# EAGLE library part KSZ8081RNACA (library 3D_MIG_Controller)
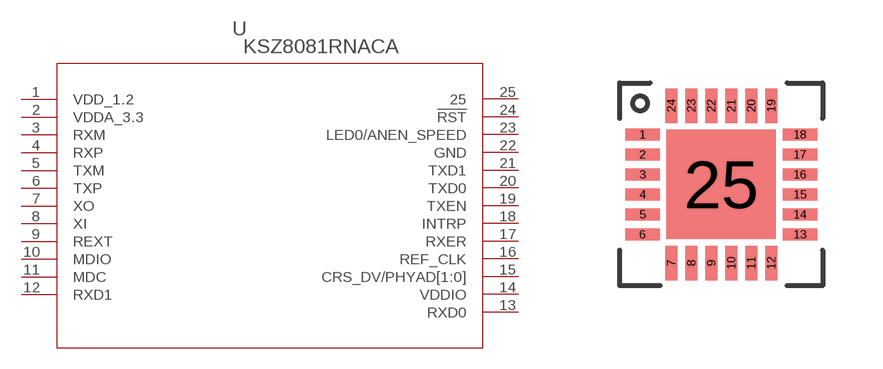
[diagram p25: symbol with the pads of QFN-24-M; footprint QFN-24-M]

Designator prefix U

## KSZ8081RNACAQFN-24-M (PARTNO: KSZ8081RNACA; VALUE: KSZ8081_QFN_24; VENDOR: Micrel)  [QFN-24-M]
1  VDD_1.2  pwr
2  VDDA_3.3  pwr
3  RXM
4  RXP
5  TXM
6  TXP
7  XO  out
8  XI  in
9  REXT  in
10  MDIO
11  MDC  in
12  RXD1
13  RXD0
14  VDDIO  pwr
15  CRS_DV/PHYAD[1:0]
16  REF_CLK
17  RXER
18  INTRP
19  TXEN  in
20  TXD0  in
21  TXD1
22  GND  pwr
23  LED0/ANEN_SPEED
24  !RST  in
25  25  pas

## Footprint QFN-24-M (pad centres in mm)
smd 0.864 x 0.305: 1 -1.968,1.25; 2 -1.968,0.75; 3 -1.968,0.25; 4 -1.968,-0.25; 5 -1.968,-0.75; 6 -1.968,-1.25; 13 1.968,-1.25; 14 1.968,-0.75; 15 1.968,-0.25; 16 1.968,0.25; 17 1.968,0.75; 18 1.968,1.25
smd 0.305 x 0.864: 7 -1.25,-1.968; 8 -0.75,-1.968; 9 -0.25,-1.968; 10 0.25,-1.968; 11 0.75,-1.968; 12 1.25,-1.968; 19 1.25,1.968; 20 0.75,1.968; 21 0.25,1.968; 22 -0.25,1.968; 23 -0.75,1.968; 24 -1.25,1.968
smd 2.743 x 2.743: 25 0,0